# EAGLE library part BT-DUAL-MODE-S (library template)
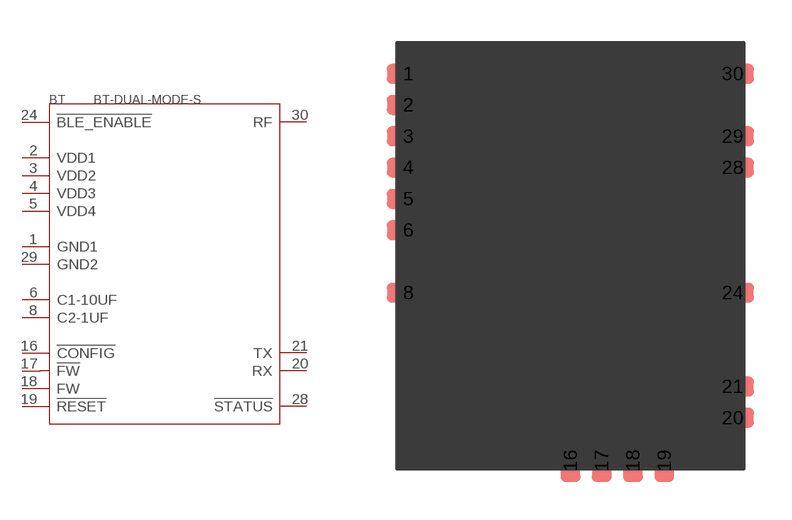
[diagram p40: symbol with the pads of BT-DUAL-MODE-S; footprint BT-DUAL-MODE-S]

Designator prefix BT

## BT-DUAL-MODE-S  [BT-DUAL-MODE-S]
1  GND1
2  VDD1
3  VDD2
4  VDD3
5  VDD4
6  C1-10UF
8  C2-1UF
16  !CONFIG
17  !FW
18  FW
19  !RESET
20  RX
21  TX
24  !BLE_ENABLE
28  !STATUS
29  GND2
30  RF

## Footprint BT-DUAL-MODE-S (pad centres in mm)
smd 1.5 x 0.7: 1 -5.7,6.4; 2 -5.7,5.3; 3 -5.7,4.2; 4 -5.7,3.1; 5 -5.7,2; 6 -5.7,0.9; 8 -5.7,-1.3; 20 5.7,-5.7; 21 5.7,-4.6; 24 5.7,-1.3; 28 5.7,3.1; 29 5.7,4.2; 30 5.7,6.4
smd 0.7 x 1.5: 16 0,-7.2; 17 1.1,-7.2; 18 2.2,-7.2; 19 3.3,-7.2